# EAGLE library part XTSD (library Adafruit SPI Flash SD Card XTSD)
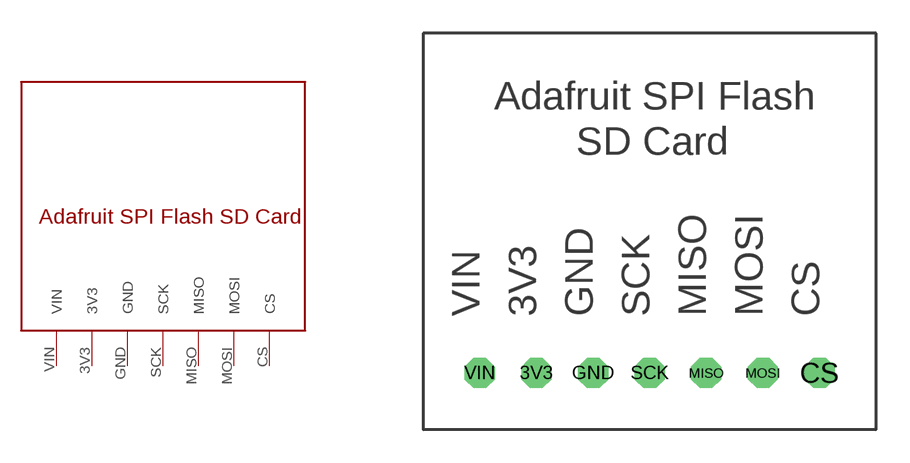
[diagram p0: symbol with the pads of XTSD; footprint XTSD]

Designator prefix -

## XTSD  [XTSD]
3V3  3V3
CS  CS
GND  GND
MISO  MISO
MOSI  MOSI
SCK  SCK
VIN  VIN

## Footprint XTSD (pad centres in mm)
drill 0.85 octagon: 3V3 5.08,2.54; CS 17.78,2.54; GND 7.62,2.54; MISO 12.7,2.54; MOSI 15.24,2.54; SCK 10.16,2.54; VIN 2.54,2.54